# Altium schematic symbol library TPS54202.Schlib: 1 symbol
Pins are listed as number, name and electrical type; pins without a type are passive.

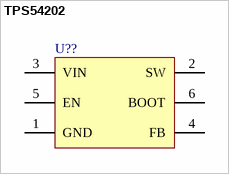
[diagram p0: symbol TPS54202]

## TPS54202
designator U??
pins: 1 GND, 2 SW, 3 VIN, 4 FB, 5 EN, 6 BOOT